# Altium footprint library LM317_PSU.PcbLib: 19 footprints (part 1 of 2)
Each footprint in its own frame and in the unit in brackets; x right, y up, seen from the top. Pads: shape width x height; smd on the part's side, far side on the other; paste and mask are expansions set on the pad; w line width, h text height; cw(c..) or ccw(c..) is an arc to the next point about the centre after c.
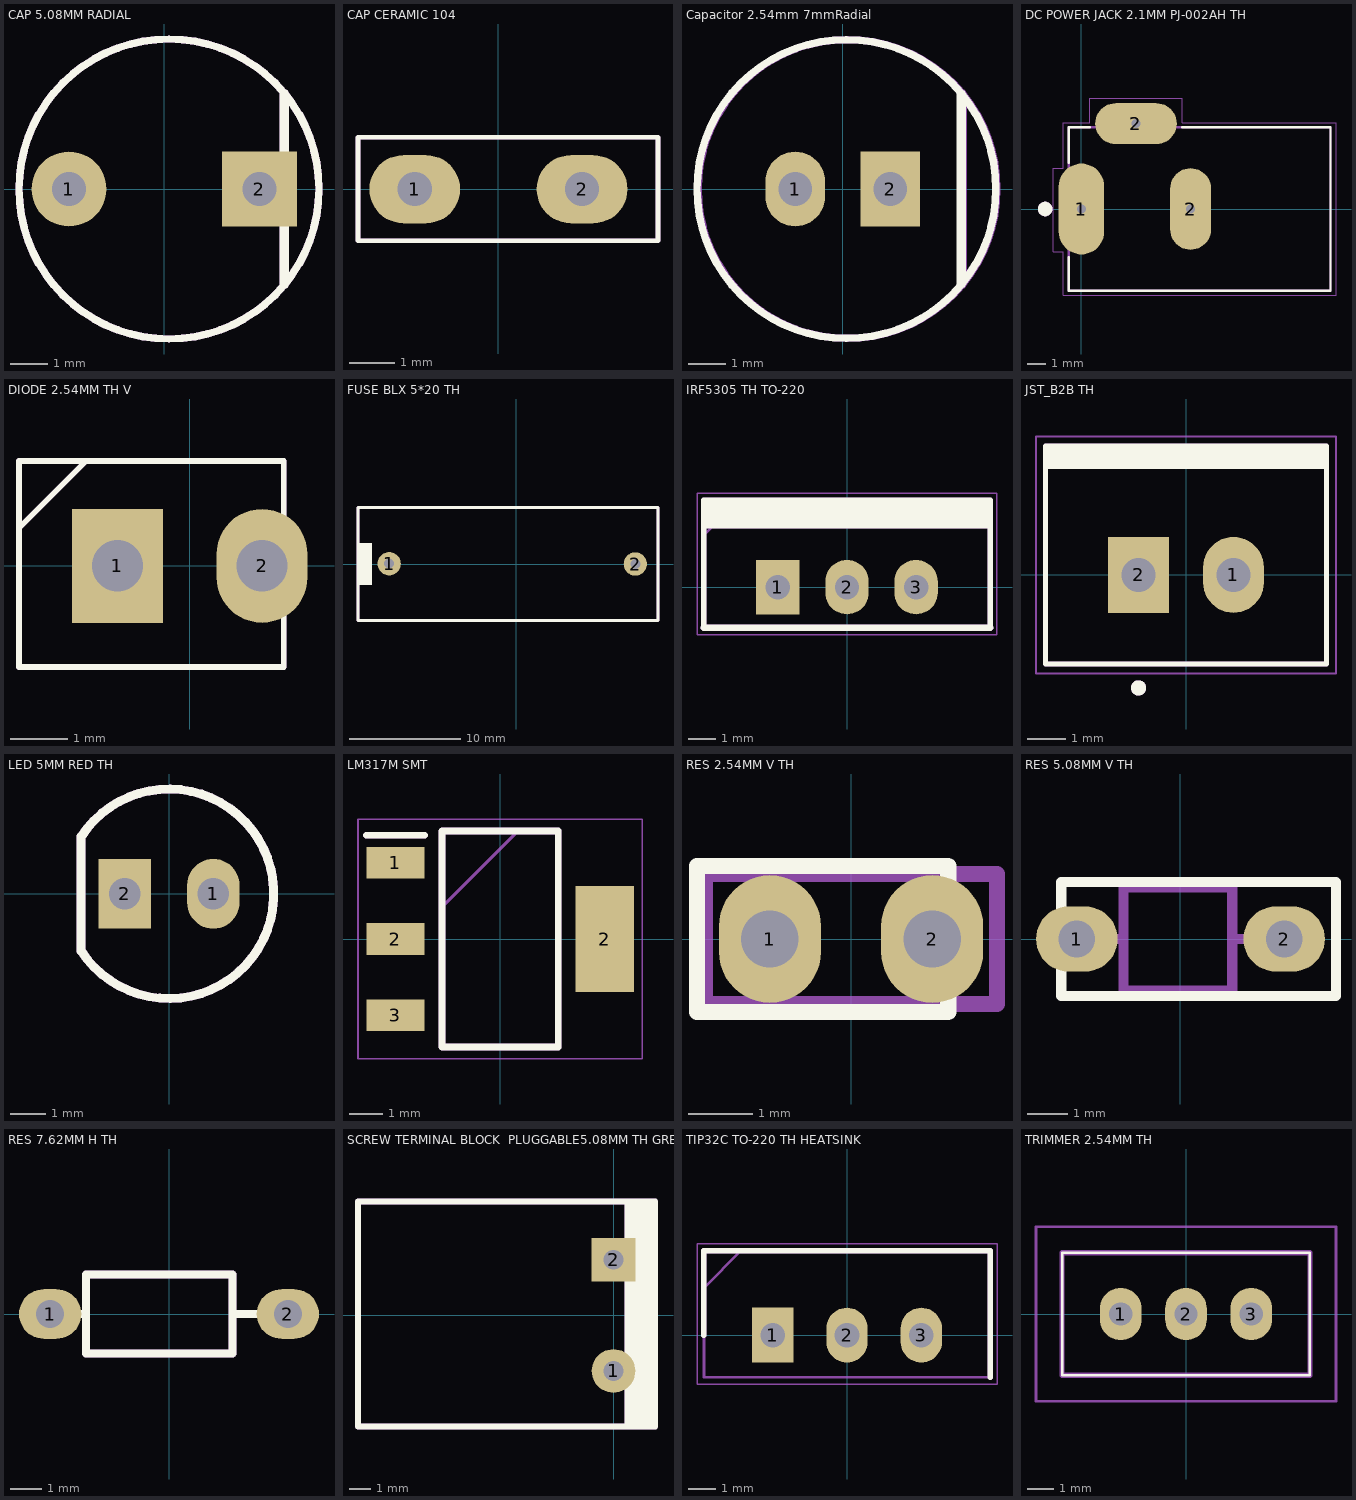
[diagram p0: the footprints below, top view; thin cyan lines are the x and y axes]

## CAP 5.08MM RADIAL [mm]
pads (2):
  round 2 hole 0.9: 1(-2.54,0)
  rect 2x2 hole 0.9: 2(2.54,0)
Top Overlay:
  circle w0.2: c0.127,0 r4
  lines w0.254: 3.203,-2.54 3.203,2.54
Mechanical 29:
  circle w0.2: c0.127,0 r4
  lines w0.254: 3.203,-2.54 3.203,2.54
  text "'.Designator'" at -1.315,-3.055 h1.5
3D body "User Library-Capacitor 100uF 50V 12x8mm.STEP": height 12.08, standoff -2.99, extent -4.094,-4.346 4.348,4.064

## CAP CERAMIC 104 [mm]
pads (2):
  oval 2x1.5 hole 0.75: 1(-1.841,0) 2(1.841,0)
Top Overlay:
  lines w0.1: -3.091,-1.138 3.513,-1.138 3.513,1.148 -3.091,1.148 -3.091,-1.138
Mechanical 29:
  lines w0.1: -3.091,-1.138 3.513,-1.138 3.513,1.148 -3.091,1.148 -3.091,-1.138
  text "'.Designator'" at -1.122,-0.765 h1.5
3D body "User Library-Ceramic Capacitor104  5x3_75mm.STEP": height 6.89, standoff -2.07, extent -2.466,-1.009 2.451,0.991

## Capacitor 2.54mm 7mmRadial [mm]
pads (2):
  oval 1.6x2 hole 0.9: 1(-1.27,0)
  rect 1.6x2 hole 0.9: 2(1.27,0)
Top Overlay:
  circle w0.2: c0.099,0 r4
  lines w0.254: 3.175,-2.54 3.175,2.54
Mechanical 29:
  circle w0.2: c0.127,0 r4
  lines w0.254: 3.203,-2.54 3.203,2.54
  text "'.Designator'" at 1.524,-2.151 h1.5
3D body "User Library-Capacitor 100uF 50V 12x8mm.STEP": height 12.08, standoff -2.99, extent -4.115,-4.205 4.327,4.205

## DC POWER JACK 2.1MM PJ-002AH TH [mm]
pads (3):
  oval 2.5x5 hole 0.5 square: 1(0,0)
  oval 4.5x2.25 hole 0.5 square: 2(3,4.7)
  oval 2.25x4.5 hole 0.5 square: 2(6,0)
Top Overlay:
  circle w0.4: c-2,0 r0.2
  lines w0.127: -0.7,-2.65 -0.7,-4.5 13.7,-4.5 13.7,4.5 5.55,4.5 ; -0.7,2.55 -0.7,4.5 0.45,4.5
Mechanical 13:
  lines w0.127: -0.7,-4.5 -0.7,4.5 13.7,4.5 13.7,-4.5 -0.7,-4.5
Mechanical 15:
  lines w0.05: -1.55,-2.35 -1,-2.35 -1,-4.75 14,-4.75 14,4.75 5.55,4.75 5.55,6.1 0.45,6.1 0.45,4.75 -1,4.75 -1,2.25 -1.55,2.25 -1.55,-2.35
Mechanical 29:
  circle w0.4: c-2,0 r0.2
  lines w0.127: -0.7,-2.65 -0.7,-4.5 13.7,-4.5 13.7,4.5 5.55,4.5 ; -0.7,2.55 -0.7,4.5 0.45,4.5
  text "'.Designator'" at 10.93,-2.54 h1.5
3D body "DC Power Jack 2.1mm female PJ-002AH.STEP": height 11.05, standoff -3.45, extent -0.684,-4.574 13.716,4.826

## DIODE 2.54MM TH V [mm] "2.54mm Vertical"
pads (2):
  rect 1.6x2 hole 0.9: 1(-1.27,0)
  oval 1.6x2 hole 0.9: 2(1.27,0)
Top Overlay:
  lines w0.1: -2.999,0.667 -1.824,1.842 ; -2.999,-1.778 1.651,-1.778 1.651,1.842 -2.999,1.842 -2.999,-1.778
Mechanical 29:
  lines w0.1: -2.999,0.667 -1.824,1.842 ; -2.999,-1.778 1.651,-1.778 1.651,1.842 -2.999,1.842 -2.999,-1.778
  text "'.Designator'" at -2.159,-3.691 h1.5
3D body "User Library-DO-15-Vertical_100.STEP": height 11.05, standoff -4, extent -3.05,-1.78 1.7,1.78

## FUSE BLX 5*20 TH [mm]
pads (2):
  round 2.1 hole 0.9: 1(-11.43,0.026) 2(10.668,0)
Top Overlay:
  rectangle: -14.224,-1.905 -12.954,1.905
  lines w0.254: -14.224,-5.08 -14.224,5.08 12.7,5.08 12.7,-5.08 -14.224,-5.08
Mechanical 29:
  rectangle: -14.224,-1.905 -12.954,1.905
  lines w0.254: -14.224,-5.08 -14.224,5.08 12.7,5.08 12.7,-5.08 -14.224,-5.08
  text "'.Designator'" at -2.413,-0.897 h1.5
3D body "User Library-BLX-A Fuse Holder_Box_Covered.STEP": height 13.08, standoff -3.99, extent -14.224,-4.774 12.954,4.826

## IRF5305 TH TO-220 [mm]
pads (3):
  rect 1.6x2 hole 0.9: 1(-2.54,0)
  oval 1.6x2 hole 0.9: 2(0,0) 3(2.54,0)
Top Overlay:
  rectangle: -5.27,2.159 5.27,3.195
  lines w0.2: -5.27,-1.495 -5.27,3.195 5.27,3.195 5.27,-1.495
  lines w0.254: -5.27,-1.495 5.27,-1.495
Mechanical 13:
  lines w0.1: -5.27,1.925 -4,3.195 ; -5.27,-1.495 -5.27,3.195 5.27,3.195 5.27,-1.495 -5.27,-1.495
Mechanical 15:
  lines w0.05: -5.52,-1.745 -5.52,3.445 5.52,3.445 5.52,-1.745 -5.52,-1.745
Mechanical 29:
  rectangle: -5.27,2.159 5.27,3.195
  lines w0.2: -5.27,-1.495 -5.27,3.195 5.27,3.195 5.27,-1.495
  lines w0.254: -5.27,-1.495 5.27,-1.495
  text "'.Designator'" at -3.421,-0.762 h1.5
3D body "User Library-IRF5305 Transistors MOSFET P-Channel TO-220AB.STEP": height 15.38, standoff -17.51, extent -5.08,-1.424 5.08,2.794

## JST_B2B TH [mm]
pads (2):
  oval 1.6x2 hole 0.9: 1(1.25,0)
  rect 1.6x2 hole 0.9: 2(-1.25,0)
Top Overlay:
  circle w0.2: c-1.25,-2.975 r0.1
  rectangle: -3.7,2.794 3.683,3.4
  lines w0.127: -3.7,-2.35 3.7,-2.35 3.7,3.4 -3.7,3.4 -3.7,-2.35
Mechanical 13:
  circle w0.2: c-1.25,-2.975 r0.1
  lines w0.127: -3.7,-2.35 3.7,-2.35 3.7,3.4 -3.7,3.4 -3.7,-2.35
Mechanical 15:
  lines w0.05: -3.95,-2.6 3.95,-2.6 3.95,3.65 -3.95,3.65 -3.95,-2.6
Mechanical 29:
  circle w0.2: c-1.25,-2.975 r0.1
  rectangle: -3.7,2.794 3.683,3.4
  lines w0.127: -3.7,-2.35 3.7,-2.35 3.7,3.4 -3.7,3.4 -3.7,-2.35
  text "'.Designator'" at -1.524,1.008 h1.5
3D body "JST_B2B.STEP": height 3.41, standoff -6.99, extent -3.7,-2.353 3.705,3.403

## LED 5MM RED TH [mm]
pads (2):
  oval 1.5x2 hole 0.9: 1(1.27,0)
  rect 1.5x2 hole 0.9: 2(-1.27,0)
Top Overlay:
  lines w0.254: -2.515,-1.636 ccw(c0,0) -2.515,1.636 ; -2.515,-1.636 ccw(c0,0) -2.515,1.636 ; -2.515,-1.636 ccw(c0,0) -2.515,1.636 ; -2.515,-1.636 ccw(c0,0) -2.515,1.636 ; -2.515,-1.636 -2.515,1.636 ; -2.515,-1.636 -2.515,1.636 ; -2.515,-1.636 -2.515,1.636 ; -2.515,-1.636 -2.515,1.636
Mechanical 29:
  lines w0.254: -2.515,-1.636 ccw(c0,0) -2.515,1.636 ; -2.515,-1.636 ccw(c0,0) -2.515,1.636 ; -2.515,-1.636 ccw(c0,0) -2.515,1.636 ; -2.515,-1.636 ccw(c0,0) -2.515,1.636 ; -2.515,-1.636 -2.515,1.636 ; -2.515,-1.636 -2.515,1.636 ; -2.515,-1.636 -2.515,1.636 ; -2.515,-1.636 -2.515,1.636
  text "'.Designator'" at -2.667,-4.834 h1.5
3D body "User Library-LEDd5R.STEP": height 8.6, standoff -6.2, extent -2.44,-3.01 2.98,3.01

## LM317M SMT [mm]
pads (4):
  rect 1.75x0.95 smd: 1(-3.15,2.3) 2(-3.15,0) 3(-3.15,-2.3)
  rect 1.75x3.2 smd: 2(3.15,0)
Top Overlay:
  lines w0.2: -4.025,3.125 -2.275,3.125 ; -1.75,-3.25 1.75,-3.25 1.75,3.25 -1.75,3.25 -1.75,-3.25
Mechanical 13:
  lines w0.1: -1.75,0.95 0.55,3.25 ; -1.75,-3.25 1.75,-3.25 1.75,3.25 -1.75,3.25 -1.75,-3.25
Mechanical 15:
  lines w0.05: -4.275,-3.6 4.275,-3.6 4.275,3.6 -4.275,3.6 -4.275,-3.6
Mechanical 29:
  lines w0.2: -4.025,3.125 -2.275,3.125 ; -1.75,-3.25 1.75,-3.25 1.75,3.25 -1.75,3.25 -1.75,-3.25
  text "'.Designator'" at 0.77,-1.651 h1.5
3D body "LM317AEMP_NOPB.stp": height 1.8, standoff 0, extent -3.5,-3.25 3.5,3.25

## RES 2.54MM V TH [mm]
pads (2):
  oval 1.6x2 hole 0.9: 1(-1.27,0) 2(1.27,0)
Top Overlay:
  lines w0.254: -2.413,-1.143 -2.413,1.143 1.524,1.143 1.524,-1.143 -2.413,-1.143
Mechanical 29:
  lines w0.254: -2.286,-1.016 -2.286,1.016 2.286,1.016 2.286,-1.016 -2.286,-1.016
  text "'.Designator'" at -1.397,-2.929 h1.5
3D body "User Library-Resistor 0_25w_2_54mm.STEP": height 9.4, standoff -2, extent -2.47,-1.2 1.57,1.2

## RES 5.08MM V TH [mm]
pads (2):
  oval 2x1.6 hole 0.9: 1(-2.54,0) 2(2.54,0)
Top Overlay:
  lines w0.254: -2.921,-1.397 3.81,-1.397 3.81,1.397 -2.921,1.397 -2.921,-1.397
Mechanical 29:
  lines w0.254: -1.778,0 -1.397,0 ; 1.27,0 1.778,0 ; -1.397,-1.27 -1.397,1.27 1.27,1.27 1.27,-1.27 -1.397,-1.27
  text "'.Designator'" at -1.143,-0.77 h1.5
3D body "User Library-Resis P_5_08_D_3.STEP": height 13.28, standoff -1.68, extent -3.018,-1.524 3.937,1.476

## RES 7.62MM H TH [mm]
pads (2):
  oval 2x1.6 hole 0.9: 1(-3.81,0) 2(3.81,0)
Top Overlay:
  lines w0.254: -3.175,0 -2.667,0 ; 2.032,0 3.048,0 ; -2.667,-1.27 -2.667,1.27 2.032,1.27 2.032,-1.27 -2.667,-1.27
Mechanical 29:
  lines w0.254: -3.175,0 -2.667,0 ; 2.032,0 3.048,0 ; -2.667,-1.27 -2.667,1.27 2.032,1.27 2.032,-1.27 -2.667,-1.27
  text "'.Designator'" at -1.397,-0.77 h1.5
3D body "User Library-Resistor-0.25W-7.62mm.STEP": height 3.36, standoff -2.84, extent -4.11,-1.135 4.11,1.27

## SCREW TERMINAL BLOCK  PLUGGABLE5.08MM TH GREEN [mm]
pads (2):
  round 2 hole 0.9: 1(0,-2.54)
  rect 2x2 hole 0.9: 2(0,2.54)
Top Overlay:
  rectangle: 0.508,-5.08 2.032,5.207
  lines w0.254: -5.207,-5.08 1.905,-5.08 ; -5.207,5.207 1.905,5.207 ; 1.905,-5.08 -11.684,-5.08 -11.684,5.207 1.905,5.207 ; 1.905,-5.08 1.905,5.207
Mechanical 29:
  rectangle: 0.508,-5.08 2.032,5.207
  lines w0.254: -11.684,-5.08 1.905,-5.08 1.905,5.207 -11.684,5.207 -11.684,-5.08
  text "'.Designator'" at -4.453,1.651 h1.5
3D body "Pluggable Screw Terminal Block 5.08mm.step": height 15.16, standoff -3.59, extent -23.112,-10.551 3.216,10.607

## TIP32C TO-220 TH HEATSINK [mm]
pads (3):
  rect 1.5x2 hole 0.9: 1(-2.7,0)
  oval 1.5x2 hole 0.9: 2(0,0) 3(2.7,0)
Top Overlay:
  lines w0.2: -5.2,0 -5.2,3.07 5.2,3.07 5.2,-1.53
Mechanical 13:
  lines w0.1: -5.2,1.72 -3.85,3.07 ; -5.2,-1.53 5.2,-1.53 5.2,3.07 -5.2,3.07 -5.2,-1.53
Mechanical 15:
  lines w0.05: -5.45,-1.78 5.45,-1.78 5.45,3.32 -5.45,3.32 -5.45,-1.78
Mechanical 29:
  lines w0.2: -5.2,0 -5.2,3.07 5.2,3.07 5.2,-1.53
  text "'.Designator'" at -1.27,1.322 h1.3
3D body "TIP32 PNP TO-220  Heatsink.STEP": height 25.01, standoff -7.11, extent -16.9,-2.413 16.9,9.187

## TRIMMER 2.54MM TH [mm] "5K 0.5W"
pads (3):
  oval 1.6x2 hole 0.9: 1(-2.5,0) 2(0,0) 3(2.5,0)
Top Overlay:
  lines w0.1: -4.75,-2.35 -4.75,2.35 4.75,2.35 4.75,-2.35 -4.75,-2.35
Mechanical 13:
  lines w0.2: -4.75,-2.35 -4.75,2.35 4.75,2.35 4.75,-2.35 -4.75,-2.35
Mechanical 15:
  lines w0.1: -5.75,-3.35 -5.75,3.35 5.75,3.35 5.75,-3.35 -5.75,-3.35
Mechanical 29:
  lines w0.1: -4.786,-2.35 -4.786,2.35 4.714,2.35 4.714,-2.35 -4.786,-2.35
  text "'.Designator'" at -2.286,-2.107 h1.3
3D body "Trimmer 3296 TopAdj.STEP": height 11.56, standoff -7.61, extent -4.765,-2.415 4.765,2.415